# Altium schematic symbol library U_AL8806_SOT23-5.SchLib: 1 symbol
Pins are listed as number, name and electrical type; pins without a type are passive.

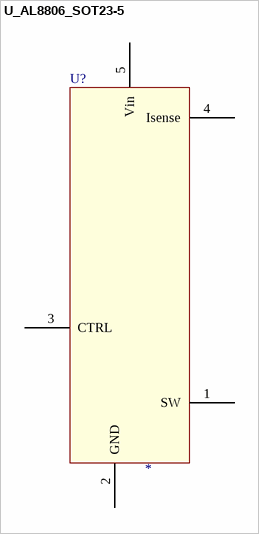
[diagram p0: symbol U_AL8806_SOT23-5]

## U_AL8806_SOT23-5
designator U?
pins: 1 SW, 2 GND, 3 CTRL, 4 Isense, 5 Vin